# Altium footprint library PWSON.PcbLib: 2 footprints
Each footprint in its own frame and in the unit in brackets; x right, y up, seen from the top. Pads: shape width x height; smd on the part's side, far side on the other; paste and mask are expansions set on the pad; w line width, h text height; cw(c..) or ccw(c..) is an arc to the next point about the centre after c.
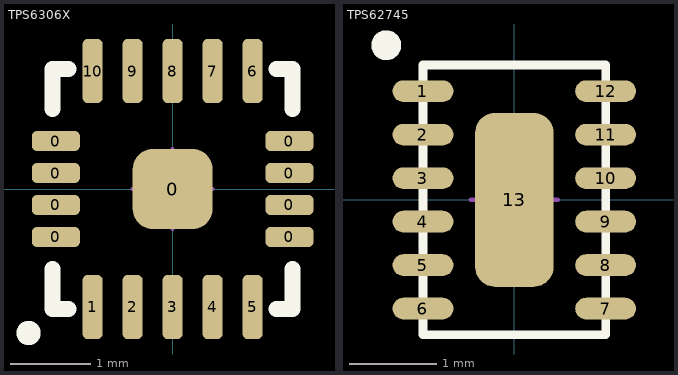
[diagram p0: the footprints below, top view; thin cyan lines are the x and y axes]

## TPS6306X [mm]
pads (19):
  rrect50% 0.6x0.25 smd: 0(-1.46,-0.6) 0(-1.46,-0.2) 0(-1.46,0.2) 0(-1.46,0.6) 0(1.46,-0.6) 0(1.46,-0.2) 0(1.46,0.2) 0(1.46,0.6)
  rrect50% 1x1 smd: 0(0,0)
  rrect50% 0.25x0.8 smd: 1(-1,-1.475) 2(-0.5,-1.475) 3(0,-1.475) 4(0.5,-1.475) 5(1,-1.475) 6(1,1.475) 7(0.5,1.475) 8(0,1.475) 9(-0.5,1.475) 10(-1,1.475)
Top Overlay:
  circle w0.2: c-1.8,-1.8 r0.051
  lines w0.2: -1.5,-1 -1.5,-1.5 -1.3,-1.5 ; -1.5,1 -1.5,1.5 -1.3,1.5 ; 1.3,-1.5 1.5,-1.5 1.5,-1 ; 1.3,1.5 1.5,1.5 1.5,1
Mechanical 15:
  circle w0.05: c0,0 r0.35
  lines w0.05: -0.5,0 0.5,0 ; 0,-0.5 0,0.5
3D body "User Library-10m1 QFN50P300X300X100-10_270X175_IPC-7351B.STEP": height 1, standoff -0.05, extent -1.5,-1.51 1.5,1.51

## TPS62745 [mm]
pads (13):
  oval 0.7x0.25 smd: 1(-1.05,1.25) 2(-1.05,0.75) 3(-1.05,0.25) 4(-1.05,-0.25) 5(-1.05,-0.75) 6(-1.05,-1.25) 7(1.05,-1.25) 8(1.05,-0.75) 9(1.05,-0.25) 10(1.05,0.25) 11(1.05,0.75) 12(1.05,1.25)
  rrect50% 0.9x2 smd: 13(0,0)
Top Overlay:
  circle w0.2: c-1.473,1.778 r0.072
  lines w0.1: -1.05,-1.55 -1.05,1.55 1.05,1.55 1.05,-1.55 -1.05,-1.55
Mechanical 15:
  circle w0.05: c0,0 r0.35
  lines w0.05: -0.5,0 0.5,0 ; 0,-0.5 0,0.5
3D body "User Library-R-PWSON-N12.STEP": height 0.8, standoff -0.02, extent -1,-1.501 1,1.499